# Altium integrated library IC_Library.IntLib: 8 symbols
Pins are listed as number, name and electrical type; pins without a type are passive.

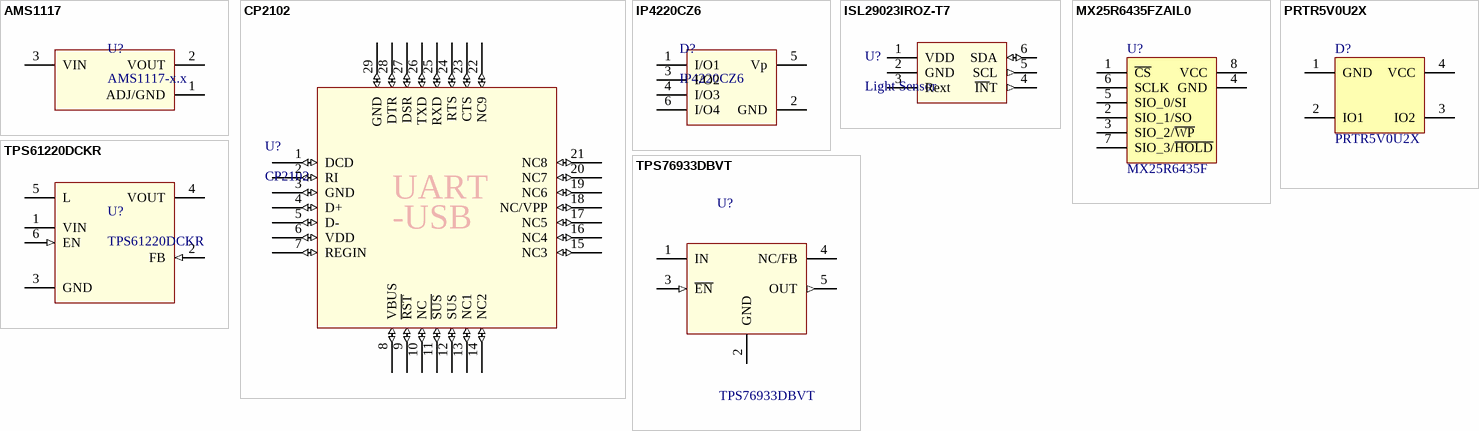
[diagram p0: symbols AMS1117 to TPS76933DBVT]

## AMS1117
designator U?, comment AMS1117-x.x
Low-dropout regulator; Type: AMS1117-x.x
footprint SOT229P700X180-4N
pins: 1 ADJ/GND (power), 2 VOUT (power), 3 VIN (power)

## CP2102
designator U?
Silicon Labs
footprint QFN28-CP2102 (Silicon Labs)
pins: 1 DCD (io), 2 RI (io), 3 GND (io), 4 D+ (io), 5 D- (io), 6 VDD (io), 7 REGIN (io), 8 VBUS (io), 9 ~{RST} (io), 10 NC (io), 11 ~{SUS} (io), 12 SUS (io), 13 NC1 (io), 14 NC2 (io), 15 NC3 (io), 16 NC4 (io), 17 NC5 (io), 18 NC/VPP (io), 19 NC6 (io), 20 NC7 (io), 21 NC8 (io), 22 NC9 (io), 23 CTS (io), 24 RTS (io), 25 RXD (io), 26 TXD (io), 27 DSR (io), 28 DTR (io), 29 GND (io)
text: UART; -USB

## IP4220CZ6
designator D?
Dual USB 2.0 integrated ESD protection; Value: IP4220CZ6
footprint SOT457(SC-74)
pins: 1 I/O1, 2 GND (power), 3 I/O2, 4 I/O3, 5 Vp (power), 6 I/O4

## ISL29023IROZ-T7
designator U?, comment Light Sensor
Light Sensor, 2.1x2mm; Manufacturer: Intersil; Manufacturer Partnumber: ISL29023IROZ-T7; Footprint: DFN 6; Type Sensor: Light Sensor
footprint SON65P200X210X80-7N
pins: 1 VDD (power), 2 GND (power), 3 Rext, 4 ~{IN}T (out), 5 SCL (out), 6 SDA (io)

## MX25R6435FZAIL0
designator U?, comment MX25R6435F
Ultra low power, 64M-bit, serial multi I/O flash memory; Part Number: MX25R6435FZAIL0; Manufacturer: Macronix; Manufacturer Part Number: MX25R6435FZAIL0; Datasheet: http://www.macronix.com/Lists/Datasheet/Attachments/3881/MX25R6435F,%20Wide%20Range,%2064Mb,%20v1.3.pdf; Footprint Doc: USON-8; Pin Count: 8; Value: MX25R6435F; Note: *; Supplier part number: MX25R6435FZAIL0
footprint USON8L4X4X0.6
pins: 1 ~{CS}, 2 SIO_1/SO, 3 SIO_2/~{WP}, 4 GND, 5 SIO_0/SI, 6 SCLK, 7 SIO_3/~{HOLD}, 8 VCC, 9 GND hidden to GND

## PRTR5V0U2X
designator D?
Ultra low capacitance double rail-to-rail ESD protection diode; Manufacturer: NXP; 2nd source part number: 152-4157; Artikkelnr Noca: 10069015; Artikkelnr Simpro: N.A.; Part Number: PRTR5V0U2X; Manufacturer Part Number: PRTR5V0U2X; Datasheet: http://www.farnell.com/datasheets/109718.pdf; LatestRevisionDate: 2012-06-11; Publisher: Nordic Semiconductor; Published: 2012-06-11; Value: PRTR5V0U2X; Note: *; Supplier: Digi-Key; Supplier part number: 568-4140-1-ND; 2nd source Supplier: Farnell; Footprint Doc: SOT-143B
footprint SOT190P230X110-4L
pins: 1 GND, 2 IO1, 3 IO2, 4 VCC

## TPS61220DCKR
designator U?
Texas Instruments
footprint SOT65P210X110-6N (Texas Instruments)
pins: 1 VIN (power), 2 FB (in), 3 GND, 4 VOUT (power), 5 L, 6 EN (in)

## TPS76933DBVT
designator U?
10-V, 100-mA, Low Iq, Low-Dropout Linear egulator 5-SOT-23; MF: Texas Instruments; Availability: Good; SnapEDA_Link: https://www.snapeda.com/parts/TPS76933DBVT/Texas%20Instruments/view-part/?ref=snap; Price: 0.58 USD; Package: SOT-23-5 Texas Instruments; MP: TPS76933DBVT; Value: *
footprint SOT95P280X145-5N
pins: 1 IN (power), 2 GND, 3 ~{EN} (in), 4 NC/FB, 5 OUT (out)